# EAGLE library part DAC8851 (library SUCHAI)
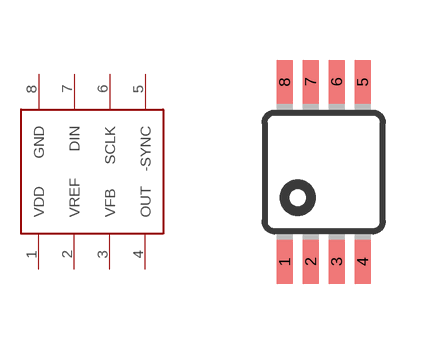
[diagram p12: symbol with the pads of MSOP8; footprint MSOP8]

Designator prefix -

## DAC8851  [MSOP8]
1  VDD
2  VREF
3  VFB
4  OUT
5  -SYNC
6  SCLK
7  DIN
8  GND

## Footprint MSOP8 (pad centres in mm)
8M, 8-Lead, 0.118" Wide, Miniature Small Outline Package MSOP 8M-Package doc1097.pdf
smd 0.4 x 1.1: 1 -0.975,-2.25; 2 -0.325,-2.25; 3 0.325,-2.25; 4 0.975,-2.25; 5 0.975,2.25; 6 0.325,2.25; 7 -0.325,2.25; 8 -0.975,2.25